# Altium integrated library Motor_Driver_AltiumLib.IntLib: 1 symbol
Pins are listed as number, name and electrical type; pins without a type are passive.

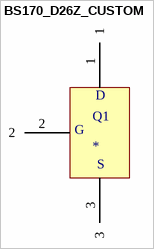
[diagram p0: symbol BS170_D26Z_CUSTOM]

## BS170_D26Z_CUSTOM
designator Q1
footprint BS170_D26Z_CUSTOM (TH MOSFET)
pins: 1, 2, 3
text: D; G; S